# EAGLE library part N8202 (library dec-con)
10 bit register
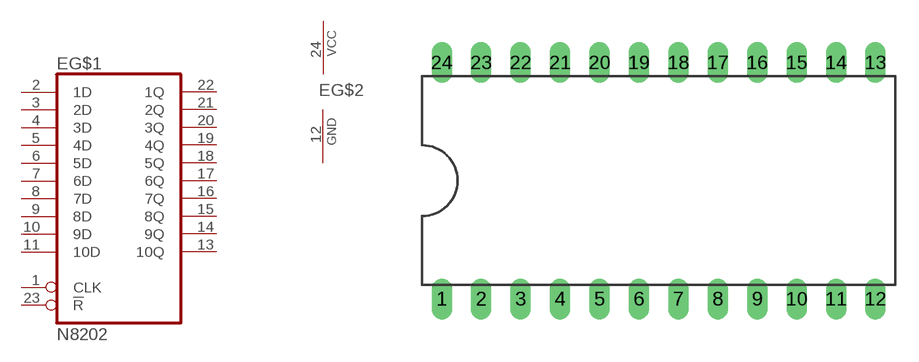
[diagram p28: symbol with the pads of DIL24; footprint DIL24]

Designator prefix E; gates G$1=N8202 G$2=PWRN

## N8202  [DIL24]
1  G$1:CLK  in
2  G$1:1D  in
3  G$1:2D  in
4  G$1:3D  in
5  G$1:4D  in
6  G$1:5D  in
7  G$1:6D  in
8  G$1:7D  in
9  G$1:8D  in
10  G$1:9D  in
11  G$1:10D  in
12  G$2:GND  pwr
13  G$1:10Q  hiz
14  G$1:9Q  hiz
15  G$1:8Q  hiz
16  G$1:7Q  hiz
17  G$1:6Q  hiz
18  G$1:5Q  hiz
19  G$1:4Q  hiz
20  G$1:3Q  hiz
21  G$1:2Q  hiz
22  G$1:1Q  hiz
23  G$1:!R  in
24  G$2:VCC  pwr

## Footprint DIL24 (pad centres in mm)
24 Pin Wide DIP
drill 0.813 long: 1 -12.7,-7.62; 2 -10.16,-7.62; 3 -7.62,-7.62; 4 -5.08,-7.62; 5 -2.54,-7.62; 6 0,-7.62; 7 2.54,-7.62; 8 5.08,-7.62; 9 7.62,-7.62; 10 10.16,-7.62; 11 12.7,-7.62; 12 15.24,-7.62; 13 15.24,7.62; 14 12.7,7.62; 15 10.16,7.62; 16 7.62,7.62; 17 5.08,7.62; 18 2.54,7.62; 19 0,7.62; 20 -2.54,7.62; 21 -5.08,7.62; 22 -7.62,7.62; 23 -10.16,7.62; 24 -12.7,7.62